# EAGLE library part EXT-PLD500 (library Lusan)
PLD500 laser diode driver, Team Wavelength
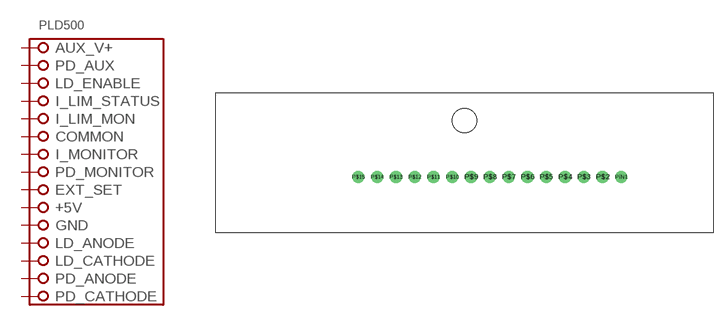
[diagram p0: symbol with the pads of SIP15S; footprint SIP15S]

Designator prefix -

## EXT-PLD500  [SIP15S]
P$2  PD_AUX
P$3  LD_ENABLE
P$4  I_LIM_STATUS
P$5  I_LIM_MON
P$6  COMMON
P$7  I_MONITOR
P$8  PD_MONITOR
P$9  EXT_SET
P$10  +5V
P$11  GND
P$12  LD_ANODE
P$13  LD_CATHODE
P$14  PD_ANODE
P$15  PD_CATHODE
PIN1  AUX_V+

## Footprint SIP15S (pad centres in mm)
15-pin SIP package for PLD500 with added securing screw
drill 1.1: P$2 18.669,-7.62; P$3 16.129,-7.62; P$4 13.589,-7.62; P$5 11.049,-7.62; P$6 8.509,-7.62; P$7 5.969,-7.62; P$8 3.429,-7.62; P$9 0.889,-7.62; P$10 -1.651,-7.62; P$11 -4.191,-7.62; P$12 -6.731,-7.62; P$13 -9.271,-7.62; P$14 -11.811,-7.62; P$15 -14.351,-7.62; PIN1 21.209,-7.62
hole 3.264 at 0,0